# Altium footprint library WS-TASV.PcbLib: 37 footprints (part 2 of 3)
Each footprint in its own frame and in the unit in brackets; x right, y up, seen from the top. Pads: shape width x height; smd on the part's side, far side on the other; paste and mask are expansions set on the pad; w line width, h text height; cw(c..) or ccw(c..) is an arc to the next point about the centre after c.
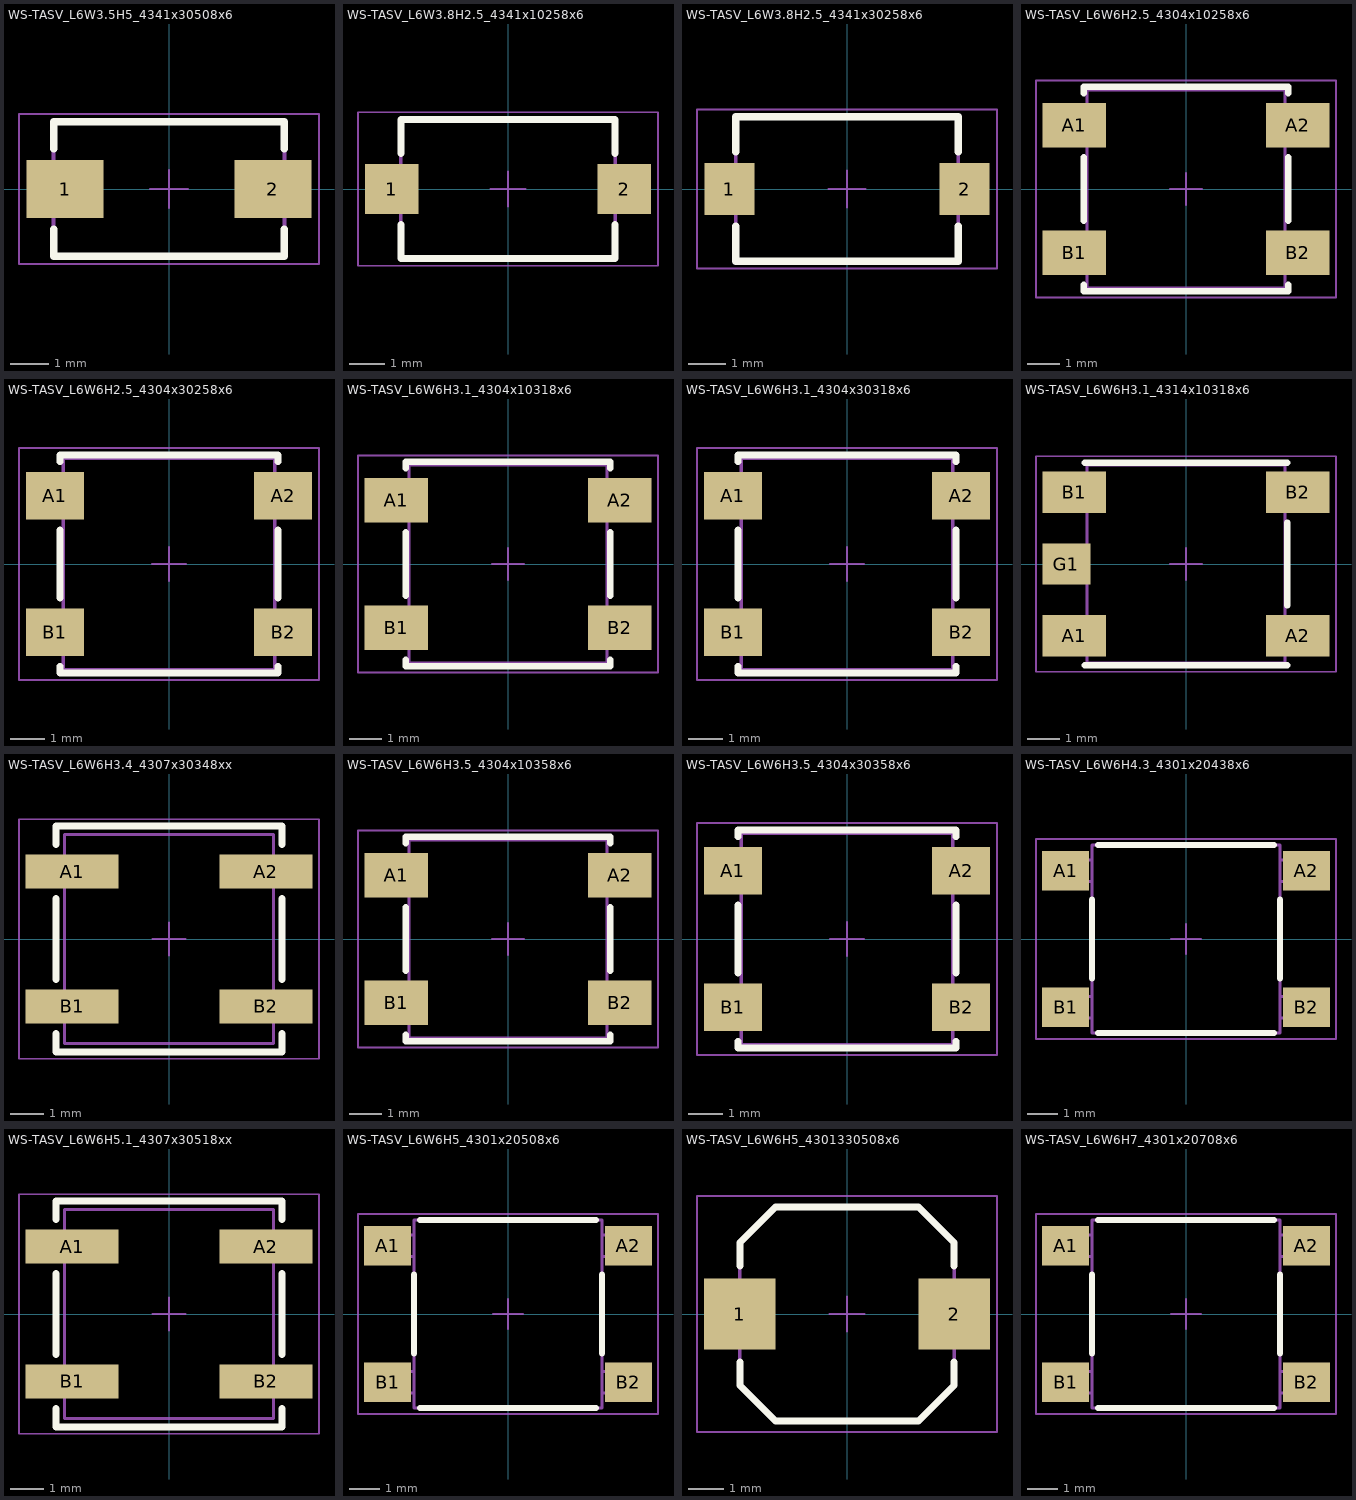
[diagram p1: the footprints below, top view; thin cyan lines are the x and y axes]

## WS-TASV_L6W3.5H5_4341x30508x6 [mm] "SMD Tact Switch, body 6x3.5mm"
height 5
pads (2):
  rect 2x1.5 smd: 1(-2.7,0) 2(2.7,0)
Top Overlay:
  lines w0.2: -3,-1.05 -3,-1.75 3,-1.75 3,-1.05 ; -3,1.05 -3,1.75 3,1.75 3,1.05
Top Designator:
  text ".Designator" at -4.998,-0.333 h1
Top Component Outline:
  lines w0.1: -3,-1.75 3,-1.75 3,1.75 -3,1.75 -3,-1.75
Top 3D Body:
  lines w0.1: -3,-1.75 -3,1.75 3,1.75 3,-1.75 -3,-1.75
Top Courtyard:
  lines w0.05: -0.5,0 0.5,0 ; 0,-0.5 0,0.5 ; -3.9,-1.95 -3.9,1.95 3.9,1.95 3.9,-1.95 -3.9,-1.95
3D body "4341x30508x6.stp": height 5, standoff 0, extent -3.649,-1.75 3.65,1.75

## WS-TASV_L6W3.8H2.5_4341x10258x6 [mm] "SMD Tact Switch, body 6x3.8mm"
height 2.5
pads (2):
  rect 1.5x1.4 smd: 1(-3.25,0) 2(3.25,0)
Top Overlay:
  lines w0.2: -3,-1 -3,-1.95 3,-1.95 3,-1 ; -3,1 -3,1.95 3,1.95 3,1
Top Designator:
  text ".Designator" at -4.998,-0.333 h1
Top Component Outline:
  lines w0.1: -3,-0.5 -3.65,-0.5 -3.65,0.5 -3,0.5 ; 3,-0.5 3.65,-0.5 3.65,0.5 3,0.5 ; -3,-1.95 3,-1.95 3,1.95 -3,1.95 -3,-1.95
Top 3D Body:
  lines w0.1: -3,-0.5 -3.65,-0.5 -3.65,0.5 -3,0.5 ; 3,-0.5 3.65,-0.5 3.65,0.5 3,0.5 ; -3,-1.95 -3,1.95 3,1.95 3,-1.95 -3,-1.95
Top Courtyard:
  lines w0.05: -0.5,0 0.5,0 ; 0,-0.5 0,0.5 ; -4.2,-2.15 -4.2,2.15 4.2,2.15 4.2,-2.15 -4.2,-2.15
3D body "4341x10258xx.stp": height 2.5, standoff 0, extent -3.65,-1.95 3.65,1.95

## WS-TASV_L6W3.8H2.5_4341x30258x6 [mm] "SMD Tact Switch, body 6x3.8mm"
height 2.5
pads (2):
  rect 1.35x1.4 smd: 1(-3.175,0) 2(3.175,0)
Top Overlay:
  lines w0.2: -3,-1 -3,-1.95 3,-1.95 3,-1 ; -3,1 -3,1.95 3,1.95 3,1
Top Designator:
  text ".Designator" at -4.998,-0.333 h1
Top Component Outline:
  lines w0.1: -3,-1.95 3,-1.95 3,1.95 -3,1.95 -3,-1.95
Top 3D Body:
  lines w0.1: -3,-1.95 -3,1.95 3,1.95 3,-1.95 -3,-1.95
Top Courtyard:
  lines w0.05: -0.5,0 0.5,0 ; 0,-0.5 0,0.5 ; -4.05,-2.15 4.05,-2.15 4.05,2.15 -4.05,2.15 -4.05,-2.15
3D body "4341x30258xx.stp": height 2.5, standoff 0, extent -3.5,-1.95 3.5,1.95

## WS-TASV_L6W6H2.5_4304x10258x6 [mm] "SMD Tact Switch, body 6x6mm"
height 2.5
pads (4):
  rect 2x1.4 smd: A1(-3.5,2) A2(3.5,2) B1(-3.5,-2) B2(3.5,-2)
Top Overlay:
  lines w0.2: -3.2,-3 -3.2,-3.2 3.2,-3.2 3.2,-3 ; -3.2,-1 -3.2,1 ; -3.2,3 -3.2,3.2 3.2,3.2 3.2,3 ; 3.2,-1 3.2,1
Top Designator:
  text ".Designator" at -4.998,-0.333 h1
Top Component Outline:
  lines w0.1: -3.1,-2.35 -4,-2.35 -4,-1.65 -3.1,-1.65 ; -3.1,1.65 -4,1.65 -4,2.35 -3.1,2.35 ; 3.1,-2.35 4,-2.35 4,-1.65 3.1,-1.65 ; 3.1,1.65 4,1.65 4,2.35 3.1,2.35 ; -3.1,-3.1 3.1,-3.1 3.1,3.1 -3.1,3.1 -3.1,-3.1
Top 3D Body:
  lines w0.1: -3.1,-2.35 -4,-2.35 -4,-1.65 -3.1,-1.65 ; -3.1,1.65 -4,1.65 -4,2.35 -3.1,2.35 ; 3.1,-2.35 4,-2.35 4,-1.65 3.1,-1.65 ; 3.1,1.65 4,1.65 4,2.35 3.1,2.35 ; -3.1,-3.1 -3.1,3.1 3.1,3.1 3.1,-3.1 -3.1,-3.1
Top Courtyard:
  lines w0.05: -0.5,0 0.5,0 ; 0,-0.5 0,0.5 ; -4.7,-3.4 4.7,-3.4 4.7,3.4 -4.7,3.4 -4.7,-3.4
3D body "430481025816.stp": height 2.5, standoff 0, extent -4,-3.1 4,3.1

## WS-TASV_L6W6H2.5_4304x30258x6 [mm] "SMD Tact Switch, body 6x6mm"
height 2.5
pads (4):
  rect 1.7x1.4 smd: A1(-3.35,2) A2(3.35,2) B1(-3.35,-2) B2(3.35,-2)
Top Overlay:
  lines w0.2: -3.2,-3 -3.2,-3.2 3.2,-3.2 3.2,-3 ; -3.2,-1 -3.2,1 ; -3.2,3 -3.2,3.2 3.2,3.2 3.2,3 ; 3.2,-1 3.2,1
Top Designator:
  text ".Designator" at -4.998,-0.333 h1
Top Component Outline:
  lines w0.1: -3.1,-3.1 -3.1,3.1 3.1,3.1 3.1,-3.1 -3.1,-3.1
Top 3D Body:
  lines w0.1: -3.1,-3.1 3.1,-3.1 3.1,3.1 -3.1,3.1 -3.1,-3.1
Top Courtyard:
  lines w0.05: -0.5,0 0.5,0 ; 0,-0.5 0,0.5 ; -4.4,-3.4 -4.4,3.4 4.4,3.4 4.4,-3.4 -4.4,-3.4
3D body "430483025816.stp": height 2.5, standoff 0, extent -3.6,-3.1 3.6,3.1

## WS-TASV_L6W6H3.1_4304x10318x6 [mm] "SMD Tact Switch, body 6x6mm"
height 3.1
pads (4):
  rect 2x1.4 smd: A1(-3.5,2) A2(3.5,2) B1(-3.5,-2) B2(3.5,-2)
Top Overlay:
  lines w0.2: -3.2,-3 -3.2,-3.2 3.2,-3.2 3.2,-3 ; -3.2,-1 -3.2,1 ; -3.2,3 -3.2,3.2 3.2,3.2 3.2,3 ; 3.2,-1 3.2,1
Top Designator:
  text ".Designator" at -4.998,-0.333 h1
Top Component Outline:
  lines w0.1: -3.1,-2.35 -4,-2.35 -4,-1.65 -3.1,-1.65 ; -3.1,1.65 -4,1.65 -4,2.35 -3.1,2.35 ; 3.1,-2.35 4,-2.35 4,-1.65 3.1,-1.65 ; 3.1,1.65 4,1.65 4,2.35 3.1,2.35 ; -3.1,-3.1 -3.1,3.1 3.1,3.1 3.1,-3.1 -3.1,-3.1
Top 3D Body:
  lines w0.1: -3.1,-2.35 -4,-2.35 -4,-1.65 -3.1,-1.65 ; -3.1,1.65 -4,1.65 -4,2.35 -3.1,2.35 ; 3.1,-2.35 4,-2.35 4,-1.65 3.1,-1.65 ; 3.1,1.65 4,1.65 4,2.35 3.1,2.35 ; -3.1,-3.1 3.1,-3.1 3.1,3.1 -3.1,3.1 -3.1,-3.1
Top Courtyard:
  lines w0.05: -0.5,0 0.5,0 ; 0,-0.5 0,0.5 ; -4.7,-3.4 4.7,-3.4 4.7,3.4 -4.7,3.4 -4.7,-3.4
3D body "430481031816.stp": height 3.1, standoff 0, extent -4,-3.1 4,3.1

## WS-TASV_L6W6H3.1_4304x30318x6 [mm] "SMD Tact Switch, body 6x6mm"
height 3.1
pads (4):
  rect 1.7x1.4 smd: A1(-3.35,2) A2(3.35,2) B1(-3.35,-2) B2(3.35,-2)
Top Overlay:
  lines w0.2: -3.2,-3 -3.2,-3.2 3.2,-3.2 3.2,-3 ; -3.2,-1 -3.2,1 ; -3.2,3 -3.2,3.2 3.2,3.2 3.2,3 ; 3.2,-1 3.2,1
Top Designator:
  text ".Designator" at -4.998,-0.333 h1
Top Component Outline:
  lines w0.1: -3.1,-3.1 -3.1,3.1 3.1,3.1 3.1,-3.1 -3.1,-3.1
Top 3D Body:
  lines w0.1: -3.1,-3.1 3.1,-3.1 3.1,3.1 -3.1,3.1 -3.1,-3.1
Top Courtyard:
  lines w0.05: -0.5,0 0.5,0 ; 0,-0.5 0,0.5 ; -4.4,-3.4 4.4,-3.4 4.4,3.4 -4.4,3.4 -4.4,-3.4
3D body "430483031816.stp": height 3.1, standoff 0, extent -3.6,-3.1 3.6,3.1

## WS-TASV_L6W6H3.1_4314x10318x6 [mm] "SMD Tact Switch, body 6x6mm"
height 3.1
pads (5):
  rect 2x1.3 smd: A1(-3.5,-2.25) A2(3.5,-2.25) B1(-3.5,2.25) B2(3.5,2.25)
  rect 1.5x1.3 smd: G1(-3.75,0)
Top Overlay:
  lines w0.2: -3.175,-3.175 3.175,-3.175 ; -3.175,3.175 3.175,3.175 ; 3.175,-1.3 3.175,1.3
Top Designator:
  text ".Designator" at -4.998,-0.333 h1
Top Component Outline:
  lines w0.1: -3.1,-2.6 -4,-2.6 -4,-1.9 -3.1,-1.9 ; -3.1,-0.35 -4,-0.35 -4,0.35 -3.1,0.35 ; -3.1,1.9 -4,1.9 -4,2.6 -3.1,2.6 ; 3.1,-2.6 4,-2.6 4,-1.9 3.1,-1.9 ; 3.1,1.9 4,1.9 4,2.6 3.1,2.6 ; -3.1,-3.1 3.1,-3.1 3.1,3.1 -3.1,3.1 -3.1,-3.1
Top 3D Body:
  lines w0.1: -3.1,-2.6 -4,-2.6 -4,-1.9 -3.1,-1.9 ; -3.1,-0.35 -4,-0.35 -4,0.35 -3.1,0.35 ; -3.1,1.9 -4,1.9 -4,2.6 -3.1,2.6 ; 3.1,-2.6 4,-2.6 4,-1.9 3.1,-1.9 ; 3.1,1.9 4,1.9 4,2.6 3.1,2.6 ; -3.1,-3.1 -3.1,3.1 3.1,3.1 3.1,-3.1 -3.1,-3.1
Top Courtyard:
  lines w0.05: -0.5,0 0.5,0 ; 0,-0.5 0,0.5 ; -4.7,-3.375 4.7,-3.375 4.7,3.375 -4.7,3.375 -4.7,-3.375
3D body "4314x10318x6.stp": height 3.1, standoff 0, extent -4,-3.1 4,3.1

## WS-TASV_L6W6H3.4_4307x30348xx [mm] "SMD Tact Switch, body 6x6mm"
height 3.4
pads (4):
  rect 2.75x1 smd: A1(-2.875,2) A2(2.875,2) B1(-2.875,-2) B2(2.875,-2)
Top Overlay:
  lines w0.2: -3.35,-2.8 -3.35,-3.35 3.35,-3.35 3.35,-2.8 ; -3.35,-1.2 -3.35,1.2 ; -3.35,2.8 -3.35,3.35 3.35,3.35 3.35,2.8 ; 3.35,-1.2 3.35,1.2
Top Designator:
  text ".Designator" at -4.998,-0.333 h1
Top Component Outline:
  lines w0.1: -3.1,-3.1 3.1,-3.1 3.1,3.1 -3.1,3.1 -3.1,-3.1
Top 3D Body:
  lines w0.1: -3.1,-3.1 -3.1,3.1 3.1,3.1 3.1,-3.1 -3.1,-3.1
Top Courtyard:
  lines w0.05: -0.5,0 0.5,0 ; 0,-0.5 0,0.5 ; -4.45,-3.55 -4.45,3.55 4.45,3.55 4.45,-3.55 -4.45,-3.55
3D body "4307x30xx8xx_3_4.stp": height 3.4, standoff 0, extent -3.4,-3.1 3.4,3.1

## WS-TASV_L6W6H3.5_4304x10358x6 [mm] "SMD Tact Switch, body 6x6mm"
height 3.5
pads (4):
  rect 2x1.4 smd: A1(-3.5,2) A2(3.5,2) B1(-3.5,-2) B2(3.5,-2)
Top Overlay:
  lines w0.2: -3.2,-3 -3.2,-3.2 3.2,-3.2 3.2,-3 ; -3.2,-1 -3.2,1 ; -3.2,3 -3.2,3.2 3.2,3.2 3.2,3 ; 3.2,-1 3.2,1
Top Designator:
  text ".Designator" at -4.998,-0.333 h1
Top Component Outline:
  lines w0.1: -3.1,-2.35 -4,-2.35 -4,-1.65 -3.1,-1.65 ; -3.1,1.65 -4,1.65 -4,2.35 -3.1,2.35 ; 3.1,-2.35 4,-2.35 4,-1.65 3.1,-1.65 ; 3.1,1.65 4,1.65 4,2.35 3.1,2.35 ; -3.1,-3.1 3.1,-3.1 3.1,3.1 -3.1,3.1 -3.1,-3.1
Top 3D Body:
  lines w0.1: -3.1,-2.35 -4,-2.35 -4,-1.65 -3.1,-1.65 ; -3.1,1.65 -4,1.65 -4,2.35 -3.1,2.35 ; 3.1,-2.35 4,-2.35 4,-1.65 3.1,-1.65 ; 3.1,1.65 4,1.65 4,2.35 3.1,2.35 ; -3.1,-3.1 -3.1,3.1 3.1,3.1 3.1,-3.1 -3.1,-3.1
Top Courtyard:
  lines w0.05: -0.5,0 0.5,0 ; 0,-0.5 0,0.5 ; -4.7,-3.4 4.7,-3.4 4.7,3.4 -4.7,3.4 -4.7,-3.4
3D body "430481035816.stp": height 3.5, standoff 0, extent -4,-3.1 4,3.1

## WS-TASV_L6W6H3.5_4304x30358x6 [mm] "SMD Tact Switch, body 6x6mm"
height 3.5
pads (4):
  rect 1.7x1.4 smd: A1(-3.35,2) A2(3.35,2) B1(-3.35,-2) B2(3.35,-2)
Top Overlay:
  lines w0.2: -3.2,-3 -3.2,-3.2 3.2,-3.2 3.2,-3 ; -3.2,-1 -3.2,1 ; -3.2,3 -3.2,3.2 3.2,3.2 3.2,3 ; 3.2,-1 3.2,1
Top Designator:
  text ".Designator" at -4.998,-0.333 h1
Top Component Outline:
  lines w0.1: -3.1,-3.1 -3.1,3.1 3.1,3.1 3.1,-3.1 -3.1,-3.1
Top 3D Body:
  lines w0.1: -3.1,-3.1 3.1,-3.1 3.1,3.1 -3.1,3.1 -3.1,-3.1
Top Courtyard:
  lines w0.05: -0.5,0 0.5,0 ; 0,-0.5 0,0.5 ; -4.4,-3.4 -4.4,3.4 4.4,3.4 4.4,-3.4 -4.4,-3.4
3D body "430483035816.stp": height 3.5, standoff 0, extent -3.6,-3.1 3.6,3.1

## WS-TASV_L6W6H4.3_4301x20438x6 [mm] "SMD Tact Switch, body 6x6mm"
height 4.3
pads (4):
  rect 1.55x1.3 smd: A1(-3.975,2.25) A2(3.975,2.25) B1(-3.975,-2.25) B2(3.975,-2.25)
Top Overlay:
  lines w0.2: -3.1,-1.3 -3.1,1.3 ; -2.9,-3.1 2.9,-3.1 ; -2.9,3.1 2.9,3.1 ; 3.1,-1.3 3.1,1.3
Top Designator:
  text ".Designator" at -4.998,-0.333 h1
Top Component Outline:
  lines w0.1: -3.1,-2.6 -4.5,-2.6 -4.5,-1.9 -3.1,-1.9 ; -3.1,1.9 -4.5,1.9 -4.5,2.6 -3.1,2.6 ; 3.1,-2.6 4.5,-2.6 4.5,-1.9 3.1,-1.9 ; 3.1,1.9 4.5,1.9 4.5,2.6 3.1,2.6 ; -3.1,-3.1 3.1,-3.1 3.1,3.1 -3.1,3.1 -3.1,-3.1
Top 3D Body:
  lines w0.1: -3.1,-2.6 -4.5,-2.6 -4.5,-1.9 -3.1,-1.9 ; -3.1,1.9 -4.5,1.9 -4.5,2.6 -3.1,2.6 ; 3.1,-2.6 4.5,-2.6 4.5,-1.9 3.1,-1.9 ; 3.1,1.9 4.5,1.9 4.5,2.6 3.1,2.6 ; -3.1,-3.1 -3.1,3.1 3.1,3.1 3.1,-3.1 -3.1,-3.1
Top Courtyard:
  lines w0.05: -0.5,0 0.5,0 ; 0,-0.5 0,0.5 ; -4.95,-3.3 -4.95,3.3 4.95,3.3 4.95,-3.3 -4.95,-3.3
3D body "4301x20438x6.stp": height 4.3, standoff 0, extent -4.5,-3.1 4.5,3.1

## WS-TASV_L6W6H5.1_4307x30518xx [mm] "SMD Tact Switch, body 6x6mm"
height 5.1
pads (4):
  rect 2.75x1 smd: A1(-2.875,2) A2(2.875,2) B1(-2.875,-2) B2(2.875,-2)
Top Overlay:
  lines w0.2: -3.35,-2.8 -3.35,-3.35 3.35,-3.35 3.35,-2.8 ; -3.35,-1.2 -3.35,1.2 ; -3.35,2.8 -3.35,3.35 3.35,3.35 3.35,2.8 ; 3.35,-1.2 3.35,1.2
Top Designator:
  text ".Designator" at -4.998,-0.333 h1
Top Component Outline:
  lines w0.1: -3.1,-3.1 3.1,-3.1 3.1,3.1 -3.1,3.1 -3.1,-3.1
Top 3D Body:
  lines w0.1: -3.1,-3.1 -3.1,3.1 3.1,3.1 3.1,-3.1 -3.1,-3.1
Top Courtyard:
  lines w0.05: -0.5,0 0.5,0 ; 0,-0.5 0,0.5 ; -4.45,-3.55 4.45,-3.55 4.45,3.55 -4.45,3.55 -4.45,-3.55
3D body "4307x30xx8xx_5_1.stp": height 5.1, standoff 0, extent -3.4,-3.1 3.4,3.1

## WS-TASV_L6W6H5_4301x20508x6 [mm] "SMD Tact Switch, body 6x6mm"
height 5
pads (4):
  rect 1.55x1.3 smd: A1(-3.975,2.25) A2(3.975,2.25) B1(-3.975,-2.25) B2(3.975,-2.25)
Top Overlay:
  lines w0.2: -3.1,-1.3 -3.1,1.3 ; -2.9,-3.1 2.9,-3.1 ; -2.9,3.1 2.9,3.1 ; 3.1,-1.3 3.1,1.3
Top Designator:
  text ".Designator" at -4.998,-0.333 h1
Top Component Outline:
  lines w0.1: -3.1,-2.6 -4.5,-2.6 -4.5,-1.9 -3.1,-1.9 ; -3.1,1.9 -4.5,1.9 -4.5,2.6 -3.1,2.6 ; 3.1,-2.6 4.5,-2.6 4.5,-1.9 3.1,-1.9 ; 3.1,1.9 4.5,1.9 4.5,2.6 3.1,2.6 ; -3.1,-3.1 3.1,-3.1 3.1,3.1 -3.1,3.1 -3.1,-3.1
Top 3D Body:
  lines w0.1: -3.1,-2.6 -4.5,-2.6 -4.5,-1.9 -3.1,-1.9 ; -3.1,1.9 -4.5,1.9 -4.5,2.6 -3.1,2.6 ; 3.1,-2.6 4.5,-2.6 4.5,-1.9 3.1,-1.9 ; 3.1,1.9 4.5,1.9 4.5,2.6 3.1,2.6 ; -3.1,-3.1 -3.1,3.1 3.1,3.1 3.1,-3.1 -3.1,-3.1
Top Courtyard:
  lines w0.05: -0.5,0 0.5,0 ; 0,-0.5 0,0.5 ; -4.95,-3.3 -4.95,3.3 4.95,3.3 4.95,-3.3 -4.95,-3.3
3D body "4301x20508x6.stp": height 5, standoff 0, extent -4.5,-3.1 4.5,3.1

## WS-TASV_L6W6H5_4301330508x6 [mm] "Tact Switch, SMT, body 6x6mm"
height 5
pads (2):
  rect 2x2 smd: 1(-3,0) 2(3,0)
Top Overlay:
  lines w0.2: -3,-1.35 -3,-2 -2,-3 2,-3 3,-2 3,-1.35 ; -3,1.35 -3,2 -2,3 2,3 3,2 3,1.35
Top Designator:
  text ".Designator" at -7.498,-0.5 h1.5
Top Component Outline:
  lines w0.1: -3,-2 -2,-3 2,-3 3,-2 3,2 2,3 -2,3 -3,2 -3,-2
Top 3D Body:
  lines w0.1: -3,-2 -3,2 -2,3 2,3 3,2 3,-2 2,-3 -2,-3 -3,-2
Top Courtyard:
  lines w0.05: -0.5,0 0.5,0 ; 0,-0.5 0,0.5 ; -4.2,-3.3 -4.2,3.3 4.2,3.3 4.2,-3.3 -4.2,-3.3
3D body "4301330508x6.stp": height 5, standoff 0, extent -3.35,-3 3.35,3

## WS-TASV_L6W6H7_4301x20708x6 [mm] "SMD Tact Switch, body 6x6mm"
height 7
pads (4):
  rect 1.55x1.3 smd: A1(-3.975,2.25) A2(3.975,2.25) B1(-3.975,-2.25) B2(3.975,-2.25)
Top Overlay:
  lines w0.2: -3.1,-1.3 -3.1,1.3 ; -2.9,-3.1 2.9,-3.1 ; -2.9,3.1 2.9,3.1 ; 3.1,-1.3 3.1,1.3
Top Designator:
  text ".Designator" at -4.998,-0.333 h1
Top Component Outline:
  lines w0.1: -3.1,-2.6 -4.5,-2.6 -4.5,-1.9 -3.1,-1.9 ; -3.1,1.9 -4.5,1.9 -4.5,2.6 -3.1,2.6 ; 3.1,-2.6 4.5,-2.6 4.5,-1.9 3.1,-1.9 ; 3.1,1.9 4.5,1.9 4.5,2.6 3.1,2.6 ; -3.1,-3.1 -3.1,3.1 3.1,3.1 3.1,-3.1 -3.1,-3.1
Top 3D Body:
  lines w0.1: -3.1,-2.6 -4.5,-2.6 -4.5,-1.9 -3.1,-1.9 ; -3.1,1.9 -4.5,1.9 -4.5,2.6 -3.1,2.6 ; 3.1,-2.6 4.5,-2.6 4.5,-1.9 3.1,-1.9 ; 3.1,1.9 4.5,1.9 4.5,2.6 3.1,2.6 ; -3.1,-3.1 3.1,-3.1 3.1,3.1 -3.1,3.1 -3.1,-3.1
Top Courtyard:
  lines w0.05: -0.5,0 0.5,0 ; 0,-0.5 0,0.5 ; -4.95,-3.3 4.95,-3.3 4.95,3.3 -4.95,3.3 -4.95,-3.3
3D body "4301x20708x6.stp": height 7, standoff 0, extent -4.5,-3.1 4.5,3.1